# Altium schematic symbol library IMR_Lib.SchLib: 106 symbols
Pins are listed as number, name and electrical type; pins without a type are passive.

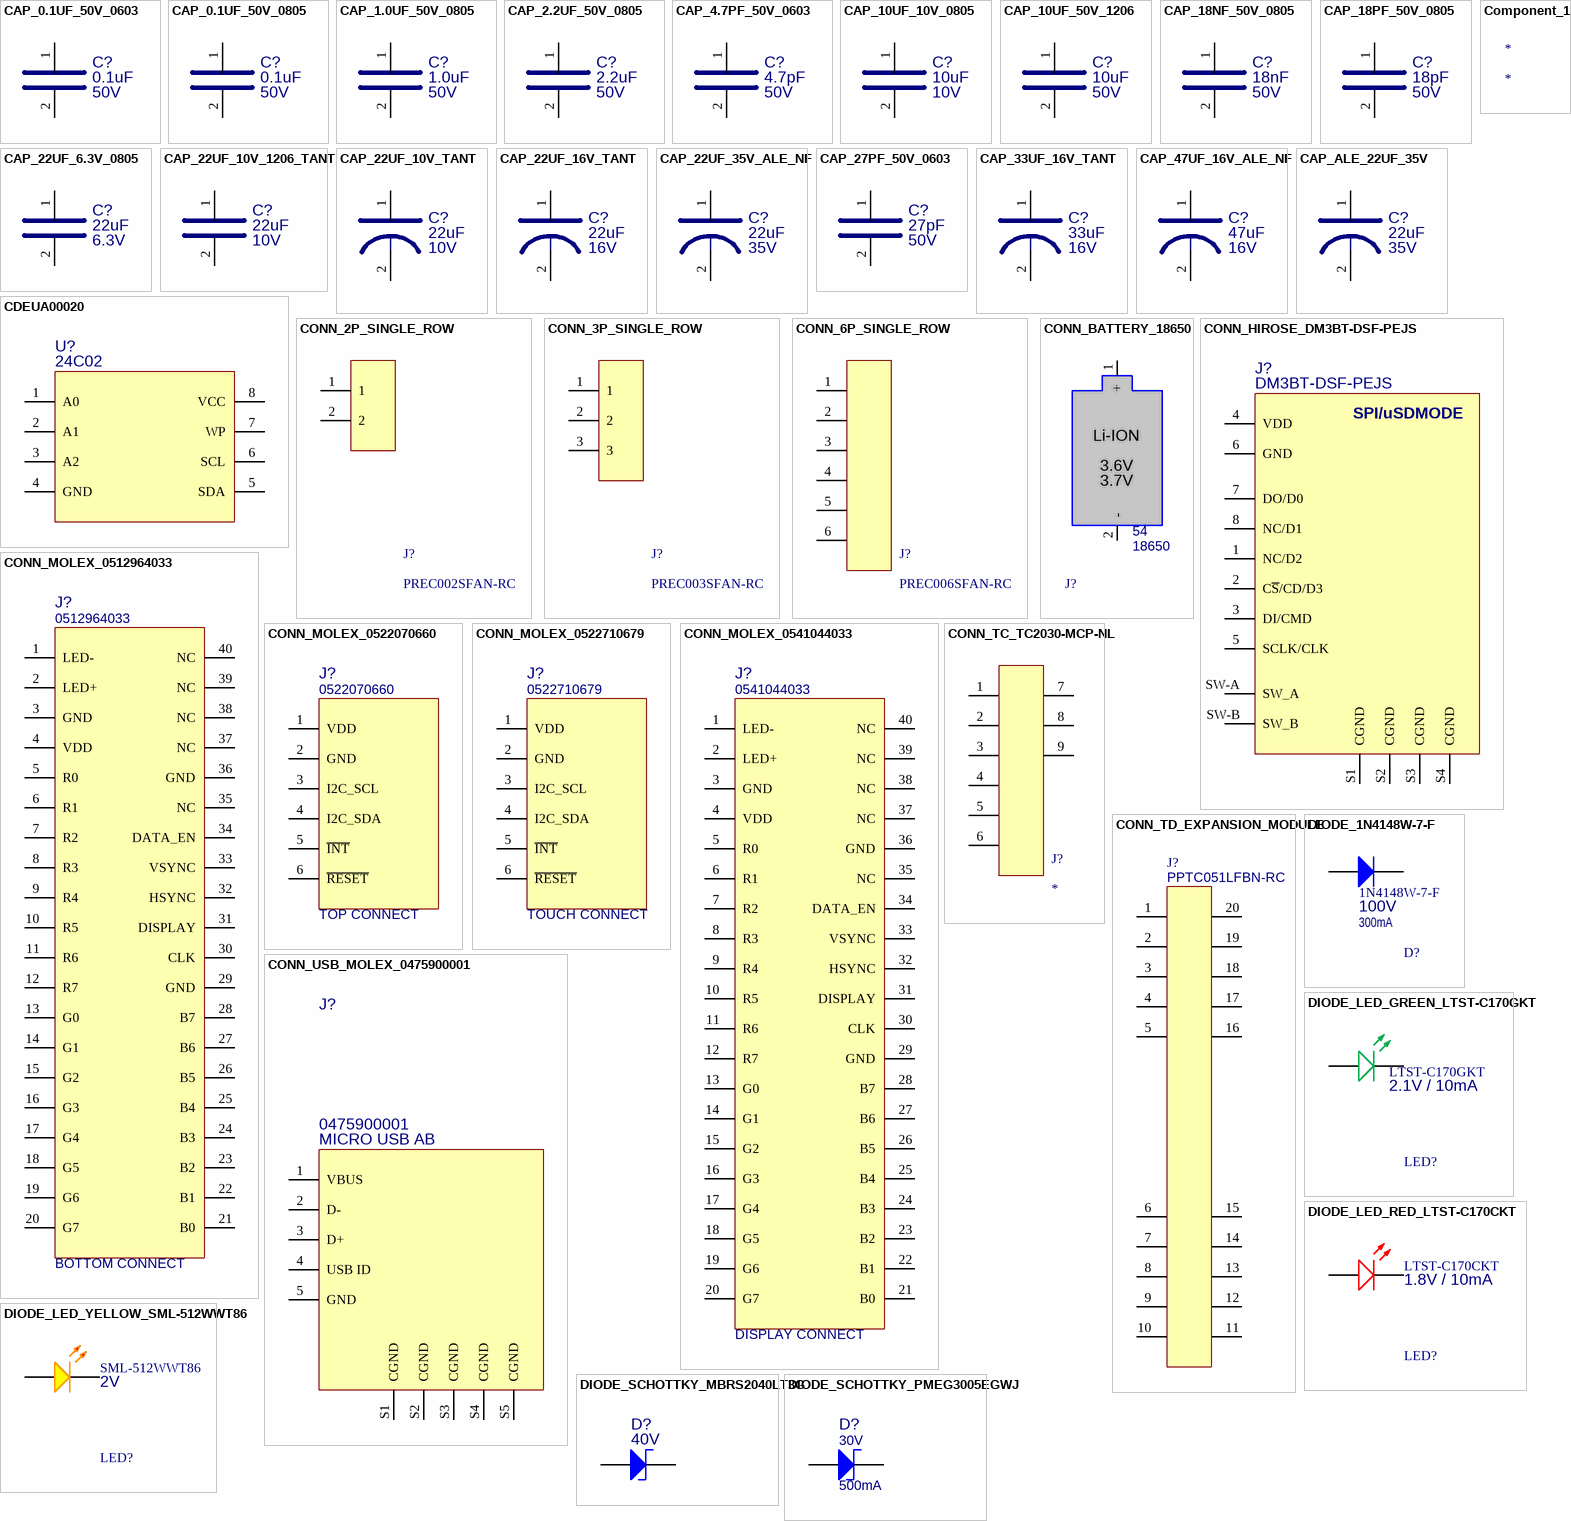
[diagram p0: symbols CAP_0.1UF_50V_0603 to DIODE_SCHOTTKY_PMEG3005EGWJ]

## CAP_0.1UF_50V_0603
designator C?, comment value 0.1uF  VOLTAGE: 50V  (hidden comment: CC0603KRX7R9BB104)
CAP CER 0.1UF 50V X7R 0603; MFG: Yageo; TOLERANCE: 10%; MFG_PN: CC0603KRX7R9BB104; Supplier 1: Digi-Key; Supplier Part Number 1: 311-1344-1-ND; Case/Package: 0603
footprint CAP_0603 (CAP 0603 50V)
pins: 1, 2

## CAP_0.1UF_50V_0805
designator C?, comment value 0.1uF  VOLTAGE: 50V  (hidden comment: 08055C104KAT2A)
CAP CER 0.1UF 50V X7R 0805; MFG: AVX; TOLERANCE: 10%; MFG_PN: 08055C104KAT2A; Supplier 1: Digi-Key; Supplier Part Number 1: 478-1395-1-ND; Case/Package: 0805
footprint CAP_0805
pins: 1, 2

## CAP_1.0UF_50V_0805
designator C?, comment value 1.0uF  VOLTAGE: 50V  (hidden comment: UMK212B7105MGHT)
CAP CER 1UF 50V X7R 0805; MFG: Taiyo Yuden; TOLERANCE: 20%; MFG_PN: UMK212B7105MGHT; Supplier 1: Digi-Key; Supplier Part Number 1: 587-6375-1-ND; Case/Package: 0805
footprint CAP_0805
pins: 1, 2

## CAP_2.2UF_50V_0805
designator C?, comment value 2.2uF  VOLTAGE: 50V  (hidden comment: UMK212BB7225MG-T)
CAP CER 2.2UF 50V X7R 0805; MFG: Taiyo Yuden; TOLERANCE: 20%; MFG_PN: UMK212BB7225MG-T; Supplier 1: Digi-Key; Supplier Part Number 1: 587-4963-1-ND; Case/Package: 0805
footprint CAP_0805
pins: 1, 2

## CAP_4.7PF_50V_0603
designator C?, comment value 4.7pF  VOLTAGE: 50V  (hidden comment: CC0603CRNPO9BN4R7)
CAP CER 4.7PF 50V C0G/NPO 0603; MFG: Yageo; TOLERANCE: +/-.25pF; MFG_PN: CC0603CRNPO9BN4R7; Supplier 1: Digi-Key; Supplier Part Number 1: 311-1740-1-ND; Case/Package: 0603
footprint CAP_0603 (CAP 0603 50V)
pins: 1, 2

## CAP_10UF_10V_0805
designator C?, comment value 10uF  VOLTAGE: 10V  (hidden comment: C2012X7R1A106K125AC)
CAP CER 10UF 10V X7R 0805; MFG: TDK Corporation; TOLERANCE: 10%; MFG_PN: C2012X7R1A106K125AC; Supplier 1: Digi-Key; Supplier Part Number 1: 445-6857-1-ND; Case/Package: 0805
footprint CAP_0805
pins: 1, 2

## CAP_10UF_50V_1206
designator C?, comment value 10uF  VOLTAGE: 50V  (hidden comment: CL31A106KBHNNNE)
CAP CER 10UF 50V X5R 1206; MFG: Samsung Electro-Mechanics; TOLERANCE: 10%; MFG_PN: CL31A106KBHNNNE; Supplier 1: Digi-Key; Supplier Part Number 1: 1276-2876-1-ND; Case/Package: 0805
footprint CAP_1206 (CAP CERAMIC 1206)
pins: 1, 2

## CAP_18NF_50V_0805
designator C?, comment value 18nF  VOLTAGE: 50V  (hidden comment: CC0805KRX7R9BB183)
CAP CER 0.018UF 50V X7R 0805; MFG: Yageo; TOLERANCE: 10%; MFG_PN: CC0805KRX7R9BB183; Supplier 1: Digi-Key; Supplier Part Number 1: 311-1137-1-ND; Case/Package: 0805
footprint CAP_0805
pins: 1, 2

## CAP_18PF_50V_0805
designator C?, comment value 18pF  VOLTAGE: 50V  (hidden comment: CML0805C0G180JT50V)
CAP CER 18PF 50V C0G/NP0 0805; MFG: Stackpole Electronics Inc; TOLERANCE: 5%; MFG_PN: CML0805C0G180JT50V; Supplier 1: Digi-Key; Supplier Part Number 1: 738-CML0805C0G180JT50VCT-ND; Case/Package: 0805
footprint CAP_0805
pins: 1, 2

## CAP_22UF_6.3V_0805
designator C?, comment value 22uF  VOLTAGE: 6.3V  (hidden comment: CL21A226KQQNNNE)
CAP CER 22UF 6.3V X5R 0805; MFG: Samsung Electro-Mechanics; TOLERANCE: 10%; MFG_PN: CL21A226KQQNNNE; Supplier 1: Digi-Key; Supplier Part Number 1: 1276-2907-1-ND; Case/Package: 0805
footprint CAP_0805
pins: 1, 2

## CAP_22UF_10V_1206_TANT
designator C?, comment value 22uF  VOLTAGE: 10V  (hidden comment: TAJA226M010RNJ)
CAP TANT 22UF 20% 10V 1206; MFG: AVX Corporation; MFG_PN: TAJA226M010RNJ; TOLERANCE: 20%; Supplier 1: Digi-Key; Supplier Part Number 1: 478-5798-1-ND; Case/Package: 0805
footprint CAP_1206_TANT (CAP 1206 POLARIZED)
pins: 1, 2

## CAP_22UF_10V_TANT
designator C?, comment value 22uF  VOLTAGE: 10V  (hidden comment: TAJA226M010RNJ)
CAP TANT 22UF 20% 10V 1206; MFG: AVX Corporation; TOLERANCE: 10%; MFG_PN: TAJA226M010RNJ; Supplier 1: Digi-Key; Supplier Part Number 1: 478-5798-1-ND
footprint CAP_1206_TANT (CAP 1206 POLARIZED)
pins: 1, 2

## CAP_22UF_16V_TANT
designator C?, comment value 22uF  VOLTAGE: 16V  (hidden comment: TRJC226K016RRJ)
CAP TANT 22UF 10% 16V 2312; MFG: AVX Corporation; MFG_PN: TRJC226K016RRJ; TOLERANCE: 10%; Supplier 1: Digi-Key; Supplier Part Number 1: 478-11127-1-ND
footprint CAP_2312 (Cap Tantalum 2312 (6032 metric))
pins: 1, 2

## CAP_22UF_35V_ALE_NF
designator C?, comment value 22uF  VOLTAGE: 35V  (hidden comment: UZS1C220MCL1GB)
CAP, AL E, 22UF, 35V, 20%, ROHS; MFG: NICHICON; MFG_PN: UZS1C220MCL1GB; TOLERANCE: 20%; Supplier 1: Digi-Key; Supplier Part Number 1: 493-10138-1-ND
footprint CAP_ALE_SMD_6.6x6.6 (CAP_ALE BODY SIZE 6.6mm x 6.6mm 3.9mm Tall)
pins: 1, 2

## CAP_27PF_50V_0603
designator C?, comment value 27pF  VOLTAGE: 50V  (hidden comment: CC0603KRNPO9BN270)
CAP CER 4.7PF 50V C0G/NPO 0603; MFG: Yageo; TOLERANCE: 10%; MFG_PN: CC0603KRNPO9BN270; Supplier 1: Digi-Key; Supplier Part Number 1: 311-4032-1-ND; Case/Package: 0603
footprint CAP_0603 (CAP 0603 50V)
pins: 1, 2

## CAP_33UF_16V_TANT
designator C?, comment value 33uF  VOLTAGE: 16V  (hidden comment: TAJC336K016RNJ)
CAP TANT 33UF 10% 16V 2312; MFG: AVX Corporation; MFG_PN: TAJC336K016RNJ; TOLERANCE: 10%; Supplier 1: Digi-Key; Supplier Part Number 1: 478-1715-1-ND
footprint CAP_2312 (Cap Tantalum 2312 (6032 metric))
pins: 1, 2

## CAP_47UF_16V_ALE_NF
designator C?, comment value 47uF  VOLTAGE: 16V  (hidden comment: UCL1C470MCL6GS)
CAP ALUM 47UF 20% 16V SMD; MFG: NICHICON; MFG_PN: UCL1C470MCL6GS; TOLERANCE: 20%; Supplier 1: Digi-Key; Supplier Part Number 1: 493-3916-1-ND
footprint CAP_ALE_SMD_6.6x6.6 (CAP_ALE BODY SIZE 6.6mm x 6.6mm 3.9mm Tall)
pins: 1, 2

## CAP_ALE_22UF_35V
designator C?, comment value 22uF  VOLTAGE: 35V  (hidden comment: UZS1C220MCL1GB)
CAP, AL E, 22UF, 35V, 20%, ROHS; MFG: NICHICON; MFG_PN: UZS1C220MCL1GB; TOLERANCE: 20%; Supplier 1: Digi-Key; Supplier Part Number 1: 493-10138-1-ND
footprint CAP_ALE_SMD_228MIL_TALL (CAP_ALE BODY SIZE 6.6mm x 6.6mm 5.8mm Tall)
pins: 1, 2

## CDEUA00020
designator U?  value 24C02  (hidden comment: CDEUA00020)
IC, EEPROM, I2C, 256x8, 8PIN SO8, ROHOS; MFG: ATMEL; MFG_PN: AT24C02N-10SU-2.7; Published: 8-Jun-2000; DatasheetDocument: 1997; Publisher: Altium Limited; Supplier 1: Digi-Key; Supplier Part Number 1: AT24C02N-10SU-2.7-ND
footprint S8_N: Linear Tech SO8 NARROW (8-Pin Small Outline Integrated Circuit 1.27 mm Pitch, IPC Medium Density)
pins: 1 A0, 2 A1, 3 A2, 4 GND, 5 SDA, 6 SCL, 7 WP, 8 VCC

## Component_1
designator *

## CONN_2P_SINGLE_ROW
designator J?, comment PREC002SFAN-RC
CONN HEADER VERT 2POS 2.54MM; MFG: Sullins Connector Solutions; Case/Package: 2P_2.54MM; MFG_PN: PREC002SFAN-RC; Supplier 1: Digi-Key; Supplier Part Number 1: S1212EC-02-ND; Value: *
footprint HDR_1X2_100MILL (SINGLE ROW 2 PIN HDR 2.54MM)
pins: 1, 2

## CONN_3P_SINGLE_ROW
designator J?, comment PREC003SFAN-RC
CONN HEADER VERT 3POS 2.54MM; MFG: Sullins Connector Solutions; Case/Package: 3P_2.54MM; MFG_PN: PREC003SFAN-RC; Supplier 1: Digi-Key; Supplier Part Number 1: S1212EC-03-ND; Value: *
footprint HDR_1X3_100MILL (SINGLE ROW 3 PIN HDR 2.54MM)
pins: 1, 2, 3

## CONN_6P_SINGLE_ROW
designator J?, comment PREC006SFAN-RC
CONN HEADER VERT 6POS 2.54MM; MFG: Sullins Connector Solutions; Case/Package: 6P_2.54MM; MFG_PN: PREC006SFAN-RC; Supplier 1: Digi-Key; Supplier Part Number 1: S1212EC-06-ND; Value: *
footprint HDR_1X6_100MILL (SINGLE ROW 6 PIN HDR 2.54MM)
pins: 1, 2, 3, 4, 5, 6

## CONN_BATTERY_18650
designator J?, comment value 18650  (hidden comment: 54)
BATTERY CONTACT CLP 18650 PC PIN (NOTE: QTY x2); MFG: Keystone Electronics; Case/Package: 2P_2.54MM; Supplier 1: Digi-Key; Supplier Part Number 1: 36-54-ND; MFG_PN: 54
footprint CONN_BATTERY_18650 (BATTERY CONNECTOR 18650 MADE OF 2X KEYSTONE 54)
pins: 1 +, 2 -
text: Li-ION; 3.6V; 3.7V

## CONN_HIROSE_DM3BT-DSF-PEJS
designator J?, comment DM3BT-DSF-PEJS
CONN MICRO SD CARD PUSH-PUSH R/A; MFG: Hirose Electric Co Ltd; MFG_PN: DM3BT-DSF-PEJS; Supplier 1: Digi-Key; Supplier Part Number 1: HR1942CT-ND; VALUE: DM3BT-DSF-PEJS
footprint HRS_DM3BT-DSF-PEJS
pins: 1 NC/D2, 2 C~{S}/CD/D3, 3 DI/CMD, 4 VDD, 5 SCLK/CLK, 6 GND, 7 DO/D0, 8 NC/D1, S1 CGND, S2 CGND, S3 CGND, S4 CGND, SW-A SW_A, SW-B SW_B
text: SPI/uSDMODE

## CONN_MOLEX_0512964033
designator J?, comment 0512964033  value BOTTOM CONNECT
CONN FFC BOTTOM 40POS 0.50MM R/A; MFG: Molex; Case/Package: 0512964033; Supplier 1: Digi-Key; Supplier Part Number 1: WM11237CT-ND; MFG_PN: 0512964033
footprint CONN_MOLEX_0512964033 (MOLEX 0512964033 RGB888 NEW HAVEN CONNECTOR)
pins: 1 LED-, 2 LED+, 3 GND, 4 VDD, 5 R0, 6 R1, 7 R2, 8 R3, 9 R4, 10 R5, 11 R6, 12 R7, 13 G0, 14 G1, 15 G2, 16 G3, 17 G4, 18 G5, 19 G6, 20 G7, 21 B0, 22 B1, 23 B2, 24 B3, 25 B4, 26 B5, 27 B6, 28 B7, 29 GND, 30 CLK, 31 DISPLAY, 32 HSYNC, 33 VSYNC, 34 DATA_EN, 35 NC, 36 GND, 37 NC, 38 NC, 39 NC, 40 NC

## CONN_MOLEX_0522070660
designator J?, comment 0522070660  value TOP CONNECT
CONN FPC TOP 6POS 1.00MM R/A; MFG: Molex; Case/Package: 0522070660; Supplier 1: Digi-Key; Supplier Part Number 1: WM10939CT-ND; MFG_PN: 0522070660
footprint CONN_MOLEX_0522070660 (MOLEX 0522070660 NEW HAVEN TOUCH)
pins: 1 VDD, 2 GND, 3 I2C_SCL, 4 I2C_SDA, 5 ~{INT}, 6 ~{RESET}

## CONN_MOLEX_0522710679
designator J?, comment 0522710679  value TOUCH CONNECT
CONN FPC BOTTOM 6POS 1.00MM R/A; MFG: Molex; Case/Package: 0522710679; Supplier 1: Digi-Key; Supplier Part Number 1: WM7955CT-ND; MFG_PN: 0522710679
footprint CONN_MOLEX_0522710679 (MOLEX 0522710679 NEW HAVEN TOUCH)
pins: 1 VDD, 2 GND, 3 I2C_SCL, 4 I2C_SDA, 5 ~{INT}, 6 ~{RESET}

## CONN_MOLEX_0541044033
designator J?, comment 0541044033  value DISPLAY CONNECT
CONN FFC TOP 40POS 0.50MM R/A; MFG: Molex; Case/Package: 0541044033; Supplier 1: Digi-Key; Supplier Part Number 1: WM11091CT-ND; MFG_PN: 0541044033
footprint CONN_MOLEX_ 0541044033 (MOLEX 0541044033 RGB888 NEW HAVEN CONNECTOR)
pins: 1 LED-, 2 LED+, 3 GND, 4 VDD, 5 R0, 6 R1, 7 R2, 8 R3, 9 R4, 10 R5, 11 R6, 12 R7, 13 G0, 14 G1, 15 G2, 16 G3, 17 G4, 18 G5, 19 G6, 20 G7, 21 B0, 22 B1, 23 B2, 24 B3, 25 B4, 26 B5, 27 B6, 28 B7, 29 GND, 30 CLK, 31 DISPLAY, 32 HSYNC, 33 VSYNC, 34 DATA_EN, 35 NC, 36 GND, 37 NC, 38 NC, 39 NC, 40 NC

## CONN_TC_TC2030-MCP-NL
designator J?  (no BOM)
CABLE TAG-CONNECT IN-CIRCUIT; MFG: Tag-Connect LLC; MFG_PN: TC2030-MCP-NL; Case/Package: *; Supplier 1: Digi-Key; Supplier Part Number 1: TC2030-MCP-NLTC-ND; Value: *
footprint TC2030-MCP-NL-
pins: 1, 2, 3, 4, 5, 6, 7, 8, 9

## CONN_TD_EXPANSION_MODULE
designator J?, comment PPTC051LFBN-RC
CONN HEADER VERT 5POS 2.54MM (NOTE: QTY x4); MFG: Sullins Connector Solutions; Case/Package: EXP_SLOT; MFG_PN: PPTC051LFBN-RC; Supplier 1: Digi-Key; Supplier Part Number 1: S6103-ND; Value: x4
footprint CONN_EXPANSION_BOARD (EXPANSION BOARD CONNECTOR 30 PIN 100 MIL SPACING)
pins: 1, 2, 3, 4, 5, 6, 7, 8, 9, 10, 11, 12, 13, 14, 15, 16, 17, 18, 19, 20

## CONN_USB_MOLEX_0475900001
designator J?, comment value MICRO USB AB  (hidden comment: 0475900001)
CONN RCPT MICRO USB AB 5P SMD RA; MFG: Molex; Supplier 1: Digi-Key; Supplier Part Number 1: WM17144CT-ND; MFG_PN: 0475900001
footprint MICRO_USB_AB_MOLEX_0475900001 (MICRO USB AB MOLEX 0475900001)
pins: 1 VBUS, 2 D-, 3 D+, 4 USB ID, 5 GND, S1 CGND, S2 CGND, S3 CGND, S4 CGND, S5 CGND

## DIODE_1N4148W-7-F
designator D?, comment value 100V  CURRENT: 300mA  (hidden comment: 1N4148W-7-F)
DIODE GEN PURP 100V 300MA SOD123; MFG: Diodes Incorporated; Case/Package: SOD-123; Supplier 1: Digi-Key; Supplier Part Number 1: 1N4148W-FDICT-ND; MFG_PN: 1N4148W-7-F
footprint SOD123
pins: 1 A, 2 K

## DIODE_LED_GREEN_LTST-C170GKT
designator LED?, comment value 2.1V / 10mA  (hidden comment: LTST-C170GKT)
DIODE, LED GREEN CLEAR SMD; MFG: Lite-On Inc.; Case/Package: 0805; Supplier 1: Digi-Key; Supplier Part Number 1: 160-1179-1-ND; MFG_PN: LTST-C170GKT
footprint PMG_LTST-C170GKT (LTST-C170GKT)
pins: 1 A, 2 K

## DIODE_LED_RED_LTST-C170CKT
designator LED?, comment value 1.8V / 10mA  (hidden comment: LTST-C170CKT)
DIODE, LED RED CLEAR SMD; MFG: Lite-On Inc.; Case/Package: 0805; Supplier 1: Digi-Key; Supplier Part Number 1: 160-1176-1-ND; MFG_PN: LTST-C170CKT
footprint PMG_LTST-C170CKT (LTST-C170CKT)
pins: 1 A, 2 K

## DIODE_LED_YELLOW_SML-512WWT86
designator LED?, comment value 2V  (hidden comment: SML-512WWT86)
LED YELLOW DIFFUSED 0603 SMD; MFG: Rohm Semiconductor; Case/Package: 0603; Supplier 1: Digi-Key; Supplier Part Number 1: 511-1315-1-ND; MFG_PN: SML-512WWT86
footprint PMG_YLED_SML-512WWT86 (LED YELLOW DIFFUSED 0603 SMD)
pins: 1 A, 2 K

## DIODE_SCHOTTKY_MBRS2040LT3G
designator D?, comment value 40V  (hidden comment: MBRS2040LT3G)
DIODE SCHOTTKY 40V 2A SMB; MFG: ON SEMICONDUCTOR; PackageReference: DO-35; ComponentLink1Description: Manufacturer Link; ComponentLink1URL: http://www.fairchildsemi.com/; ComponentLink2Description: Datasheet; ComponentLink2URL: http://www.fairchildsemi.com/ds/1N%2F1N4148.pdf; Supplier 1: Digi-Key; Supplier Part Number 1: MBRS2040LT3GOSCT-ND; MFG_PN: MBRS2040LT3G; Current: 2A; Case/Package: SMB
footprint SMB (DIODE SCHOTTKY 40V 1A SMB)
pins: 1 A, 2 K

## DIODE_SCHOTTKY_PMEG3005EGWJ
designator D?, comment value 30V  Current: 500mA  (hidden comment: PMEG3005EGWJ)
DIODE SCHOTTKY 30V 500MA SOD123; MFG: Nexperia USA Inc.; ComponentLink1Description: Manufacturer Link; ComponentLink1URL: http://www.fairchildsemi.com/; ComponentLink2Description: Datasheet; ComponentLink2URL: http://www.fairchildsemi.com/ds/1N%2F1N4148.pdf; Supplier 1: Digi-Key; Supplier Part Number 1: MBRS2040LT3GOSCT-ND; MFG_PN: PMEG3005EGWJ; Case/Package: SOD-123
footprint SOD123
pins: 1 A, 2 K

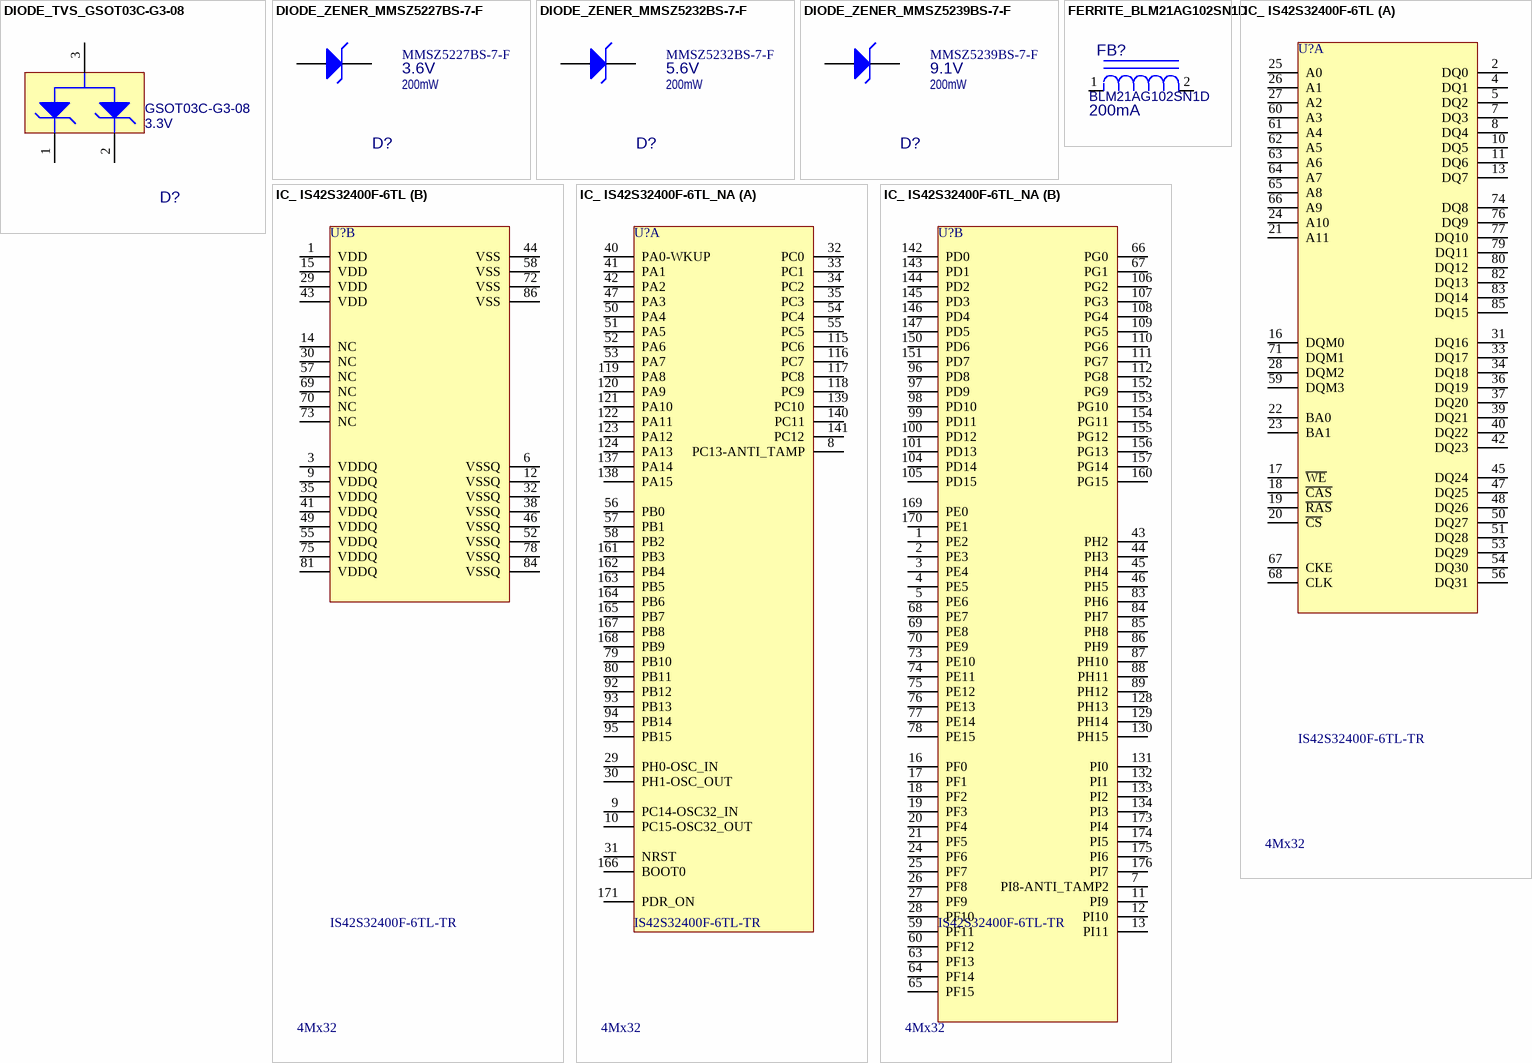
[diagram p1: symbols DIODE_TVS_GSOT03C-G3-08 to IC_ IS42S32400F-6TL_NA]

## DIODE_TVS_GSOT03C-G3-08
designator D?, comment value 3.3V  (hidden comment: GSOT03C-G3-08)
TVS DIODE 3.3V 12.3V SOT23; MFG: Vishay Semiconductor; POWER: 30A (8/20us); Case/Package: SOT-23; Supplier 1: Digi-Key; Supplier Part Number 1: GSOT03C-G3-08GICT-ND; MFG_PN: GSOT03C-G3-08
footprint SOT-23 (SOT23-3)
pins: 1 A1, 2 A2, 3 A

## DIODE_ZENER_MMSZ5227BS-7-F
designator D?, comment value 3.6V  POWER: 200mW  (hidden comment: MMSZ5227BS-7-F)
DIODE ZENER 3.6V 200MW SOD323; MFG: Vishay Semiconductor; Case/Package: SOD323; Supplier 1: Digi-Key; Supplier Part Number 1: MMSZ5227BS-FDICT-ND; MFG_PN: MMSZ5227BS-7-F
footprint SOD323
pins: 1 A, 2 K

## DIODE_ZENER_MMSZ5232BS-7-F
designator D?, comment value 5.6V  POWER: 200mW  (hidden comment: MMSZ5232BS-7-F)
DIODE ZENER 5.6V 200MW SOD323; MFG: Vishay Semiconductor; Case/Package: SOD323; Supplier 1: Digi-Key; Supplier Part Number 1: MMSZ5232BS-FDICT-ND; MFG_PN: MMSZ5232BS-7-F
footprint SOD323
pins: 1 A, 2 K

## DIODE_ZENER_MMSZ5239BS-7-F
designator D?, comment value 9.1V  POWER: 200mW  (hidden comment: MMSZ5239BS-7-F)
DIODE ZENER 9.1V 200MW SOD323; MFG: Vishay Semiconductor; Case/Package: SOD323; Supplier 1: Digi-Key; Supplier Part Number 1: MMSZ5239BS-FDICT-ND; MFG_PN: MMSZ5239BS-7-F
footprint SOD323
pins: 1 A, 2 K

## FERRITE_BLM21AG102SN1D
designator FB?, comment value 200mA  (hidden comment: BLM21AG102SN1D)
FERRITE, 1KOHM AT 100MHZ, 220MA, .450DCR; MFG: MURATA; TOLERANCE: 10%; Supplier 1: Digi-Key; Supplier Part Number 1: 490-1041-1-ND; MFG_PN: BLM21AG102SN1D
footprint RES_0805
pins: 1, 2

## IC_ IS42S32400F-6TL
designator U?, comment IS42S32400F-6TL-TR  value 4Mx32
IC DRAM 128M PARALLEL 86TSOP II; MFG: ISSI, Integrated Silicon Solution Inc; MFG_PN: IS42S32400F-6TL-TR; Supplier 1: Mouser; Supplier Part Number 1: 870-IS42S32400F-6TL; Case/Package: 86TSSOPII
footprint 86TSOPII (SOP50P1176X120-86N)
part A pins: 2 DQ0, 4 DQ1, 5 DQ2, 7 DQ3, 8 DQ4, 10 DQ5, 11 DQ6, 13 DQ7, 16 DQM0, 17 ~{WE}, 18 ~{CAS}, 19 ~{RAS}, 20 ~{CS}, 21 A11, 22 BA0, 23 BA1, 24 A10, 25 A0, 26 A1, 27 A2, 28 DQM2, 31 DQ16, 33 DQ17, 34 DQ18, 36 DQ19, 37 DQ20, 39 DQ21, 40 DQ22, 42 DQ23, 45 DQ24, 47 DQ25, 48 DQ26, 50 DQ27, 51 DQ28, 53 DQ29, 54 DQ30, 56 DQ31, 59 DQM3, 60 A3, 61 A4, 62 A5, 63 A6, 64 A7, 65 A8, 66 A9, 67 CKE, 68 CLK, 71 DQM1, 74 DQ8, 76 DQ9, 77 DQ10, 79 DQ11, 80 DQ12, 82 DQ13, 83 DQ14, 85 DQ15
part B pins: 1 VDD, 3 VDDQ, 6 VSSQ, 9 VDDQ, 12 VSSQ, 14 NC, 15 VDD, 29 VDD, 30 NC, 32 VSSQ, 35 VDDQ, 38 VSSQ, 41 VDDQ, 43 VDD, 44 VSS, 46 VSSQ, 49 VDDQ, 52 VSSQ, 55 VDDQ, 57 NC, 58 VSS, 69 NC, 70 NC, 72 VSS, 73 NC, 75 VDDQ, 78 VSSQ, 81 VDDQ, 84 VSSQ, 86 VSS
2 alternate drawings of the same symbol

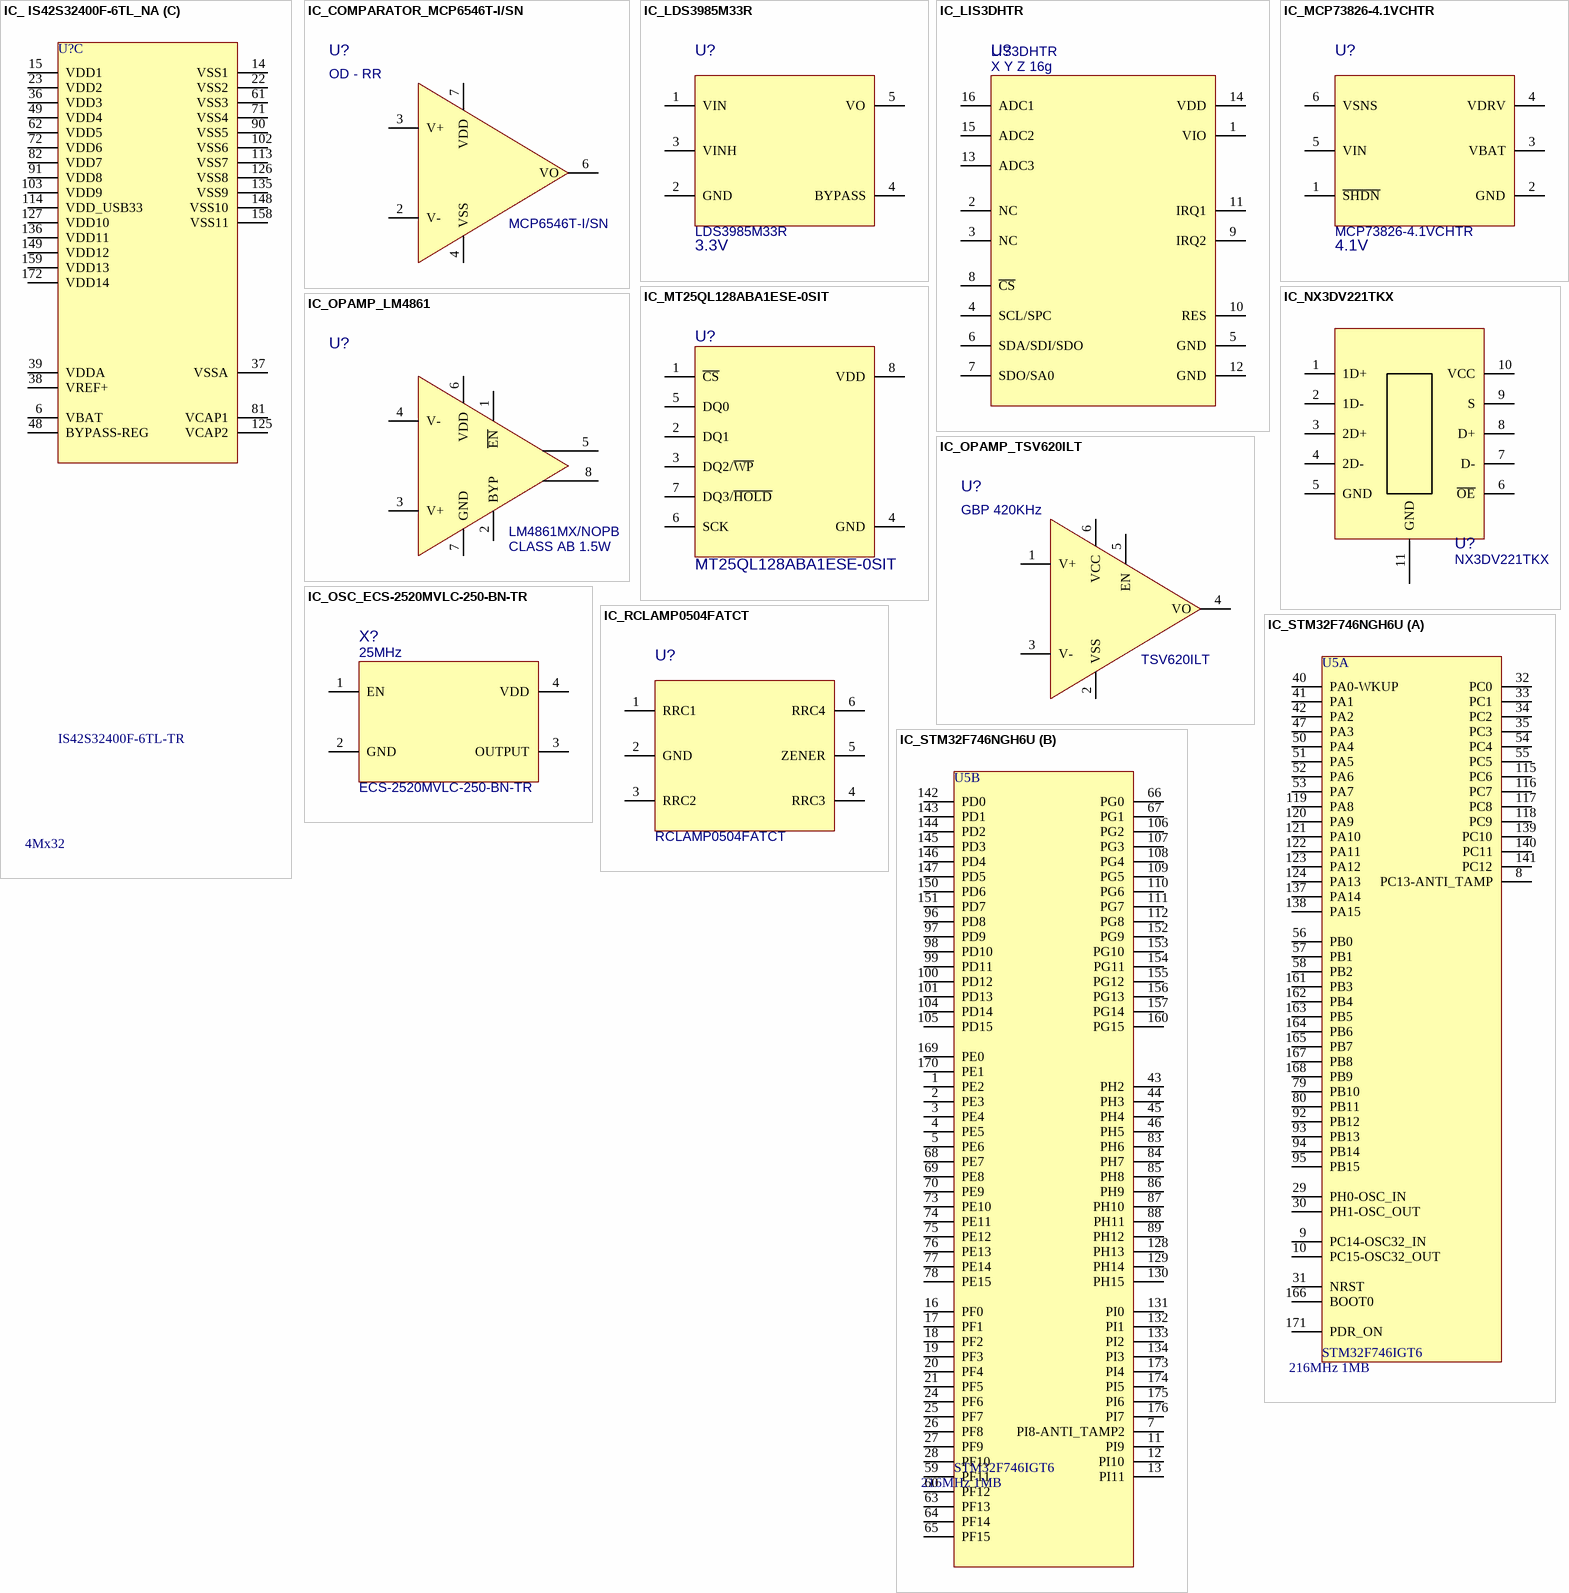
[diagram p2: symbols IC_ IS42S32400F-6TL_NA to IC_STM32F746NGH6U]

## IC_ IS42S32400F-6TL_NA
designator U?, comment IS42S32400F-6TL-TR  value 4Mx32
IC DRAM 128M PARALLEL 86TSOP II; MFG: ISSI, Integrated Silicon Solution Inc; MFG_PN: IS42S32400F-6TL-TR; Supplier 1: Mouser; Supplier Part Number 1: 870-IS42S32400F-6TL; Case/Package: 86TSSOPII
footprint 86TSOPII (SOP50P1176X120-86N)
part A pins: 8 PC13-ANTI_TAMP, 9 PC14-OSC32_IN, 10 PC15-OSC32_OUT, 29 PH0-OSC_IN, 30 PH1-OSC_OUT, 31 NRST, 32 PC0, 33 PC1, 34 PC2, 35 PC3, 40 PA0-WKUP, 41 PA1, 42 PA2, 47 PA3, 50 PA4, 51 PA5, 52 PA6, 53 PA7, 54 PC4, 55 PC5, 56 PB0, 57 PB1, 58 PB2, 79 PB10, 80 PB11, 92 PB12, 93 PB13, 94 PB14, 95 PB15, 115 PC6, 116 PC7, 117 PC8, 118 PC9, 119 PA8, 120 PA9, 121 PA10, 122 PA11, 123 PA12, 124 PA13, 137 PA14, 138 PA15, 139 PC10, 140 PC11, 141 PC12, 161 PB3, 162 PB4, 163 PB5, 164 PB6, 165 PB7, 166 BOOT0, 167 PB8, 168 PB9, 171 PDR_ON
part B pins: 1 PE2, 2 PE3, 3 PE4, 4 PE5, 5 PE6, 7 PI8-ANTI_TAMP2, 11 PI9, 12 PI10, 13 PI11, 16 PF0, 17 PF1, 18 PF2, 19 PF3, 20 PF4, 21 PF5, 24 PF6, 25 PF7, 26 PF8, 27 PF9, 28 PF10, 43 PH2, 44 PH3, 45 PH4, 46 PH5, 59 PF11, 60 PF12, 63 PF13, 64 PF14, 65 PF15, 66 PG0, 67 PG1, 68 PE7, 69 PE8, 70 PE9, 73 PE10, 74 PE11, 75 PE12, 76 PE13, 77 PE14, 78 PE15, 83 PH6, 84 PH7, 85 PH8, 86 PH9, 87 PH10, 88 PH11, 89 PH12, 96 PD8, 97 PD9, 98 PD10, 99 PD11, 100 PD12, 101 PD13, 104 PD14, 105 PD15, 106 PG2, 107 PG3, 108 PG4, 109 PG5, 110 PG6, 111 PG7, 112 PG8, 128 PH13, 129 PH14, 130 PH15, 131 PI0, 132 PI1, 133 PI2, 134 PI3, 142 PD0, 143 PD1, 144 PD2, 145 PD3, 146 PD4, 147 PD5, 150 PD6, 151 PD7, 152 PG9, 153 PG10, 154 PG11, 155 PG12, 156 PG13, 157 PG14, 160 PG15, 169 PE0, 170 PE1, 173 PI4, 174 PI5, 175 PI6, 176 PI7
part C pins: 6 VBAT, 14 VSS1, 15 VDD1, 22 VSS2, 23 VDD2, 36 VDD3, 37 VSSA, 38 VREF+, 39 VDDA, 48 BYPASS-REG, 49 VDD4, 61 VSS3, 62 VDD5, 71 VSS4, 72 VDD6, 81 VCAP1, 82 VDD7, 90 VSS5, 91 VDD8, 102 VSS6, 103 VDD9, 113 VSS7, 114 VDD_USB33, 125 VCAP2, 126 VSS8, 127 VDD10, 135 VSS9, 136 VDD11, 148 VSS10, 149 VDD12, 158 VSS11, 159 VDD13, 172 VDD14
2 alternate drawings of the same symbol

## IC_COMPARATOR_MCP6546T-I/SN
designator U?, comment value OD - RR  (hidden comment: MCP6546T-I/SN)
IC COMP OPENDRN 1.6V SNGL 8-SOIC; MFG: Microchip Technology; Supplier 1: Digi-Key; Supplier Part Number 1: MCP6546T-I/SNCT-ND; Case/Package: 8-SOIC; MFG_PN: MCP6546T-I/SN
footprint SO-8 (SO8 IC)
pins: 2 V-, 3 V+, 4 VSS, 6 VO, 7 VDD

## IC_LDS3985M33R
designator U?, comment value 3.3V  (hidden comment: LDS3985M33R)
IC REG LINEAR 3.3V 300MA SOT23-5; MFG: STMicroelectronics; Supplier 1: Digi-Key; Supplier Part Number 1: 497-4257-1-ND; MFG_PN: LDS3985M33R
footprint SOT23-5
pins: 1 VIN, 2 GND, 3 VINH, 4 BYPASS, 5 VO

## IC_LIS3DHTR
designator U?, comment value X Y Z 16g  (hidden comment: LIS3DHTR)
ACCEL 2-16G I2C/SPI 16LGA; MFG: STMicroelectronics; Supplier 1: Digi-Key; Supplier Part Number 1: 497-10613-1-ND; MFG_PN: LIS3DHTR
footprint XDCR_LIS3DHTR
pins: 1 VIO, 2 NC, 3 NC, 4 SCL/SPC, 5 GND, 6 SDA/SDI/SDO, 7 SDO/SA0, 8 ~{CS}, 9 IRQ2, 10 RES, 11 IRQ1, 12 GND, 13 ADC3, 14 VDD, 15 ADC2, 16 ADC1

## IC_MCP73826-4.1VCHTR
designator U?, comment value 4.1V  (hidden comment: MCP73826-4.1VCHTR)
IC CONTROLLR LI-ION 4.1V SOT23-6; MFG: Microchip Technology; Supplier 1: Digi-Key; Supplier Part Number 1: MCP73826-4.1VCHCT-ND; MFG_PN: MCP73826-4.1VCHTR
footprint SOT23-6
pins: 1 ~{SHDN}, 2 GND, 3 VBAT, 4 VDRV, 5 VIN, 6 VSNS

## IC_MT25QL128ABA1ESE-0SIT
designator U?, comment MT25QL128ABA1ESE-0SIT
IC FLASH 128M SPI 133MHZ 8SOP2; MFG: Micron Technology Inc.; MFG_PN: MT25QL128ABA1ESE-0SIT; Supplier 1: Digi-Key; Supplier Part Number 1: 557-1772-1-ND; Case/Package: 8SOP2; VALUE: MT25QL128ABA1ESE-0SIT
footprint SO8W (8 Pin SOP2 (SO8W) 5mm x 5mm)
pins: 1 ~{CS}, 2 DQ1, 3 DQ2/~{WP}, 4 GND, 5 DQ0, 6 SCK, 7 DQ3/~{HOLD}, 8 VDD

## IC_NX3DV221TKX
designator U?, comment NX3DV221TKX
IC USB 2.0 SWITCH HS 10HVSON; MFG: NXP USA Inc.; Case/Package: 10-DFN; Supplier 1: Digi-Key; Supplier Part Number 1: 568-10368-1-ND; MFG_PN: NX3DV221TKX
footprint PMG_NX3DV221TKX (SWDAT_IC USB 2.0 SWITCH HS 10HVSON)
pins: 1 1D+, 2 1D-, 3 2D+, 4 2D-, 5 GND, 6 ~{OE}, 7 D-, 8 D+, 9 S, 10 VCC, 11 GND

## IC_OPAMP_LM4861
designator U?, comment value CLASS AB 1.5W  (hidden comment: LM4861MX/NOPB)
IC AMP CLASS AB MONO 1.5W 8SOIC; MFG: Texas Instruments; Supplier 1: Digi-Key; Supplier Part Number 1: 296-38566-1-ND; Case/Package: 8SOIC; MFG_PN: LM4861MX/NOPB
footprint SO-8 (SO8 IC)
pins: 1 ~{EN}, 2 BYP, 3 V+, 4 V-, 5 VO1, 6 VDD, 7 GND, 8 VO2

## IC_OPAMP_TSV620ILT
designator U?, comment value GBP 420KHz  (hidden comment: TSV620ILT)
IC OPAMP GP 1 CIRCUIT SOT23-6; MFG: STMicroelectronics; Supplier 1: Digi-Key; Supplier Part Number 1: 497-10160-1-ND; Case/Package: SOT23-6; MFG_PN: TSV620ILT
footprint SOT23-6
pins: 1 V+, 2 VSS, 3 V-, 4 VO, 5 EN, 6 VCC

## IC_OSC_ECS-2520MVLC-250-BN-TR
designator X?, comment value 25MHz  (hidden comment: ECS-2520MVLC-250-BN-TR)
XTAL OSC XO 25MHZ CMOS SMD; MFG: ECS Inc.; Supplier 1: Digi-Key; Supplier Part Number 1: 50-ECS-2520MVLC-250-BN-CT-ND; Case/Package: 4-SMD; MFG_PN: ECS-2520MVLC-250-BN-TR
footprint OSC_ECS-2520S25-250-FN-TR
pins: 1 EN, 2 GND, 3 OUTPUT, 4 VDD

## IC_RCLAMP0504FATCT
designator U?, comment RCLAMP0504FATCT
TVS DIODE 5V 25V SC70-6; MFG: Semtech Corporation; Supplier 1: Digi-Key; Supplier Part Number 1: RCLAMP0504FATCTCT-ND; VALUE: 5V; MFG_PN: RCLAMP0504FATCT
footprint SOT-363_6-TSSOP_SC-88 (COMMON NAMES: SOT-363, 6-TSSOP, SC-88)
pins: 1 RRC1, 2 GND, 3 RRC2, 4 RRC3, 5 ZENER, 6 RRC4

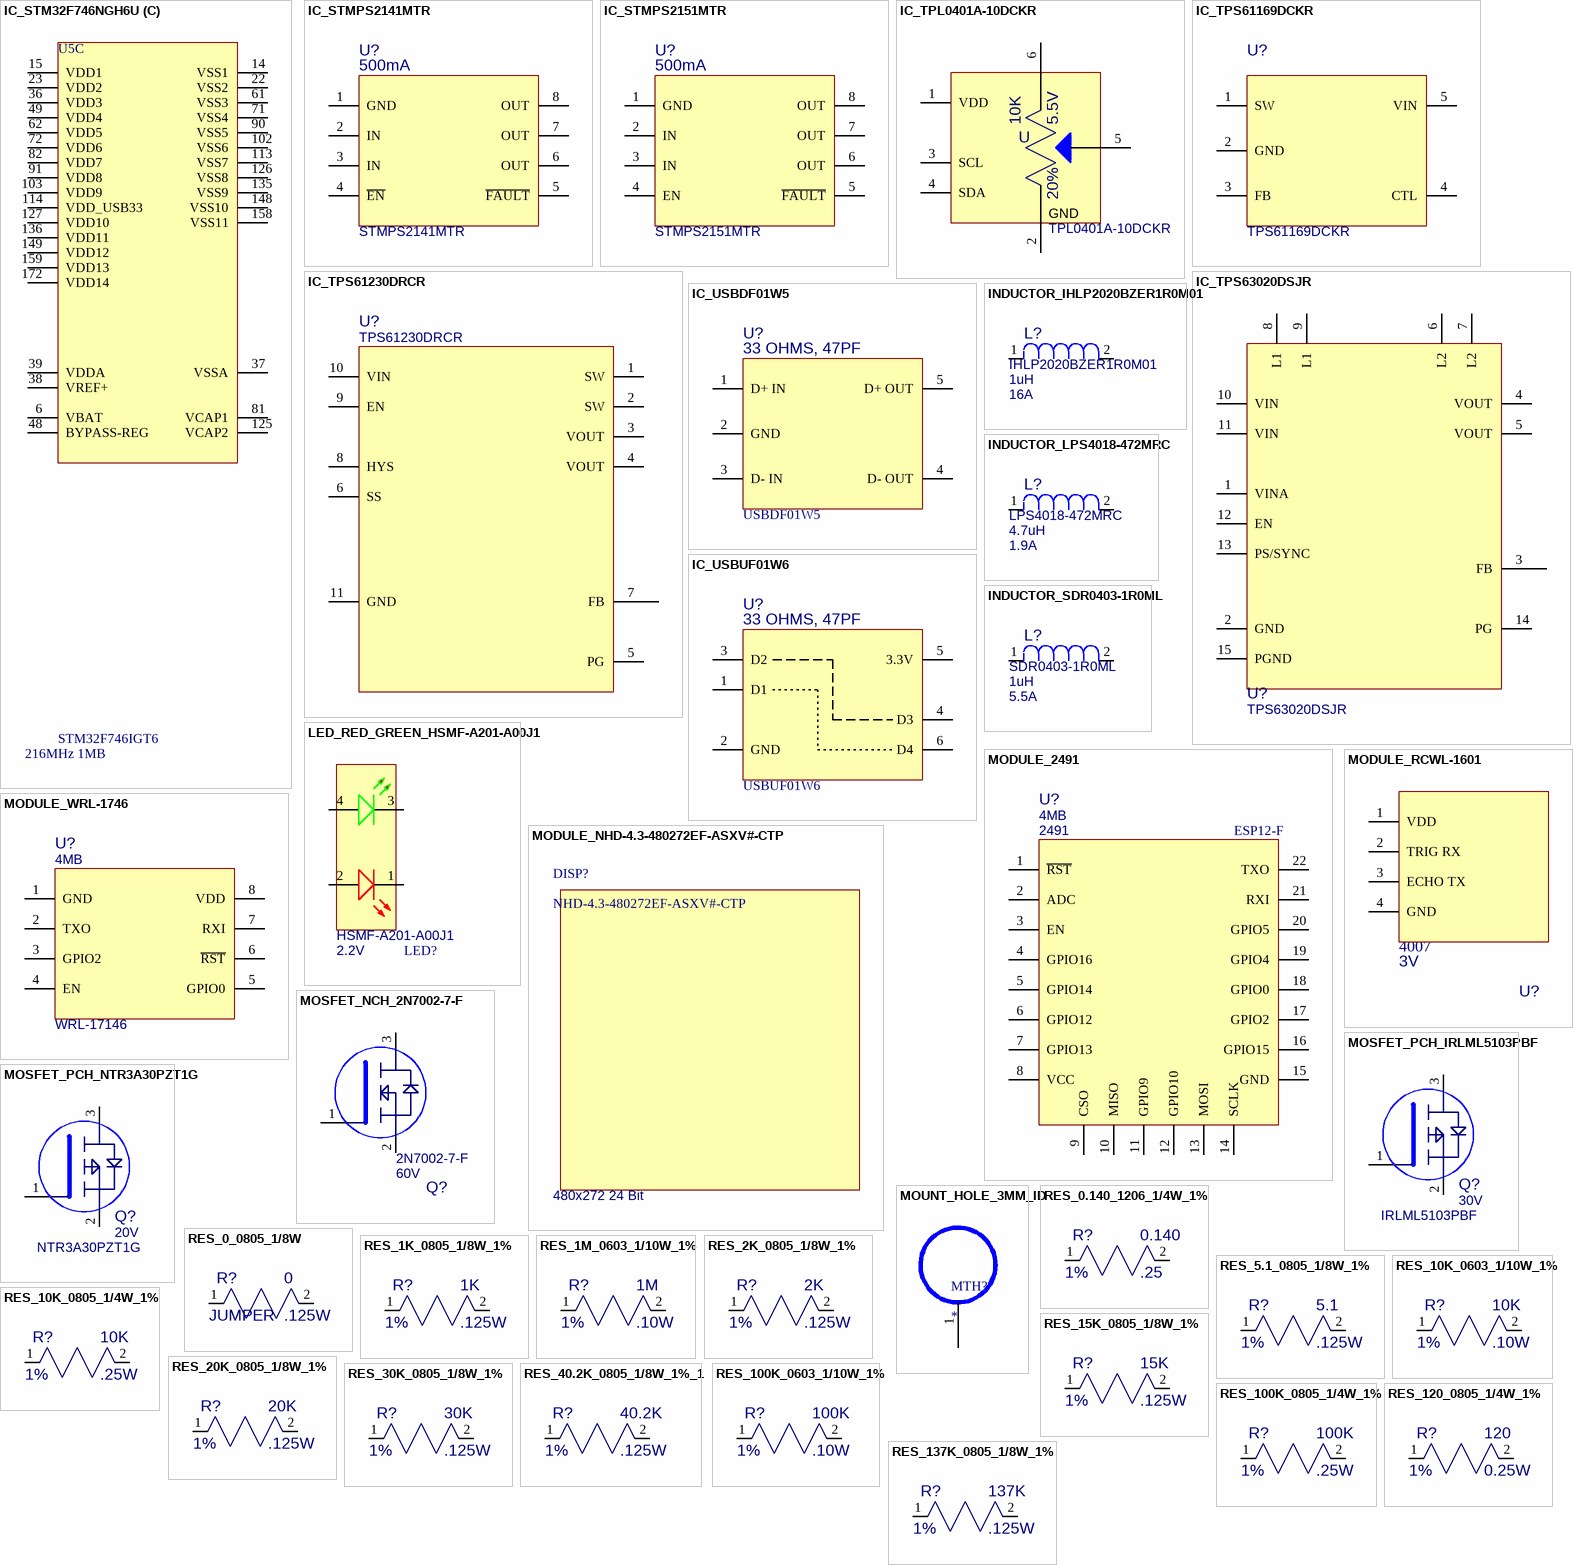
[diagram p3: symbols IC_STM32F746NGH6U to RES_137K_0805_1/8W_1%]

## IC_STM32F746NGH6U
designator U5, comment STM32F746IGT6  value 216MHz 1MB
STM32F746NGH6 (STM32F7 Birdie) TBGA216; MFG: STMicroelectronics; Case/Package: 176LQFP; MFG_PN: STM32F746IGT6; Supplier 1: DigiKey; Supplier Part Number 1: 497-15817-ND
footprint QFP50P2600X2600X160-176N
part A pins: 8 PC13-ANTI_TAMP, 9 PC14-OSC32_IN, 10 PC15-OSC32_OUT, 29 PH0-OSC_IN, 30 PH1-OSC_OUT, 31 NRST, 32 PC0, 33 PC1, 34 PC2, 35 PC3, 40 PA0-WKUP, 41 PA1, 42 PA2, 47 PA3, 50 PA4, 51 PA5, 52 PA6, 53 PA7, 54 PC4, 55 PC5, 56 PB0, 57 PB1, 58 PB2, 79 PB10, 80 PB11, 92 PB12, 93 PB13, 94 PB14, 95 PB15, 115 PC6, 116 PC7, 117 PC8, 118 PC9, 119 PA8, 120 PA9, 121 PA10, 122 PA11, 123 PA12, 124 PA13, 137 PA14, 138 PA15, 139 PC10, 140 PC11, 141 PC12, 161 PB3, 162 PB4, 163 PB5, 164 PB6, 165 PB7, 166 BOOT0, 167 PB8, 168 PB9, 171 PDR_ON
part B pins: 1 PE2, 2 PE3, 3 PE4, 4 PE5, 5 PE6, 7 PI8-ANTI_TAMP2, 11 PI9, 12 PI10, 13 PI11, 16 PF0, 17 PF1, 18 PF2, 19 PF3, 20 PF4, 21 PF5, 24 PF6, 25 PF7, 26 PF8, 27 PF9, 28 PF10, 43 PH2, 44 PH3, 45 PH4, 46 PH5, 59 PF11, 60 PF12, 63 PF13, 64 PF14, 65 PF15, 66 PG0, 67 PG1, 68 PE7, 69 PE8, 70 PE9, 73 PE10, 74 PE11, 75 PE12, 76 PE13, 77 PE14, 78 PE15, 83 PH6, 84 PH7, 85 PH8, 86 PH9, 87 PH10, 88 PH11, 89 PH12, 96 PD8, 97 PD9, 98 PD10, 99 PD11, 100 PD12, 101 PD13, 104 PD14, 105 PD15, 106 PG2, 107 PG3, 108 PG4, 109 PG5, 110 PG6, 111 PG7, 112 PG8, 128 PH13, 129 PH14, 130 PH15, 131 PI0, 132 PI1, 133 PI2, 134 PI3, 142 PD0, 143 PD1, 144 PD2, 145 PD3, 146 PD4, 147 PD5, 150 PD6, 151 PD7, 152 PG9, 153 PG10, 154 PG11, 155 PG12, 156 PG13, 157 PG14, 160 PG15, 169 PE0, 170 PE1, 173 PI4, 174 PI5, 175 PI6, 176 PI7
part C pins: 6 VBAT, 14 VSS1, 15 VDD1, 22 VSS2, 23 VDD2, 36 VDD3, 37 VSSA, 38 VREF+, 39 VDDA, 48 BYPASS-REG, 49 VDD4, 61 VSS3, 62 VDD5, 71 VSS4, 72 VDD6, 81 VCAP1, 82 VDD7, 90 VSS5, 91 VDD8, 102 VSS6, 103 VDD9, 113 VSS7, 114 VDD_USB33, 125 VCAP2, 126 VSS8, 127 VDD10, 135 VSS9, 136 VDD11, 148 VSS10, 149 VDD12, 158 VSS11, 159 VDD13, 172 VDD14
2 alternate drawings of the same symbol

## IC_STMPS2141MTR
designator U?, comment value 500mA  (hidden comment: STMPS2141MTR)
IC PWR SWITCH N-CHANNEL 1:1 8SO; MFG: STMicroelectronics; Supplier 1: Digi-Key; Supplier Part Number 1: 497-6932-1-ND; Case/Package: SO8; MFG_PN: STMPS2141MTR
footprint SO-8 (SO8 IC)
pins: 1 GND, 2 IN, 3 IN, 4 ~{EN}, 5 ~{FAULT}, 6 OUT, 7 OUT, 8 OUT

## IC_STMPS2151MTR
designator U?, comment value 500mA  (hidden comment: STMPS2151MTR)
IC PWR SWITCH N-CHAN 1:1 SOT23-5; MFG: STMicroelectronics; Supplier 1: Digi-Key; Supplier Part Number 1: 497-8349-1-ND; Case/Package: SO8; MFG_PN: STMPS2151MTR
footprint SO-8 (SO8 IC)
pins: 1 GND, 2 IN, 3 IN, 4 EN, 5 ~{FAULT}, 6 OUT, 7 OUT, 8 OUT

## IC_TPL0401A-10DCKR
designator U, comment value 10K  TOLERANCE: 20%  POWER: 5.5V  (hidden comment: TPL0401A-10DCKR)
IC DGTL POT 10KOHM 128TAP SC70-6; MFG: Texas Instruments; Case/Package: SC70-6; Supplier 1: Digi-Key; Supplier Part Number 1: 296-29676-1-ND; MFG_PN: TPL0401A-10DCKR
footprint SOT-363_6-TSSOP_SC-88 (COMMON NAMES: SOT-363, 6-TSSOP, SC-88)
pins: 1 VDD, 2 GND, 3 SCL, 4 SDA, 5 W, 6 H

## IC_TPS61169DCKR
designator U?, comment TPS61169DCKR
IC LED DRVR RGLTR DIM 1.8A SC70; MFG: Texas Instruments; Supplier 1: Digi-Key; Supplier Part Number 1: 296-40821-1-ND; VALUE: 1.8A; Case/Package: SC70; MFG_PN: TPS61169DCKR
footprint SC70-5_SOT-353_5-TSSOP (COMMON NAMES: SC70-5, SOT-353, 5-TSSOP)
pins: 1 SW, 2 GND, 3 FB, 4 CTL, 5 VIN

## IC_TPS61230DRCR
designator U?, comment TPS61230DRCR
IC REG BOOST ADJ 4A 10VSON; MFG: Texas Instruments; Case/Package: 10VSON; Supplier 1: Digi-Key; VALUE: 4A; Supplier Part Number 1: 296-37761-1-ND; MFG_PN: TPS61230DRCR
footprint 10VSON (IC PACKAGE TPS61230DRCR)
pins: 1 SW, 2 SW, 3 VOUT, 4 VOUT, 5 PG, 6 SS, 7 FB, 8 HYS, 9 EN, 10 VIN, 11 GND

## IC_TPS63020DSJR
designator U?, comment TPS63020DSJR
IC REG BCK BST ADJ 3.5A 14VSON; MFG: Texas Instruments; Case/Package: 14VSON; Supplier 1: Digi-Key; VALUE: 3.5A; Supplier Part Number 1: 296-36491-1-ND; MFG_PN: TPS63020DSJR
footprint 14VSON (IC PACKAGE TPS63020DSJR)
pins: 1 VINA, 2 GND, 3 FB, 4 VOUT, 5 VOUT, 6 L2, 7 L2, 8 L1, 9 L1, 10 VIN, 11 VIN, 12 EN, 13 PS/SYNC, 14 PG, 15 PGND

## IC_USBDF01W5
designator U?, comment value 33 OHMS, 47PF  (hidden comment: USBDF01W5)
FILTER RC(PI) 33 OHM/47PF SMD; MFG: STMicroelectronics; Supplier 1: Digi-Key; Supplier Part Number 1: 497-3086-1-ND; MFG_PN: USBDF01W5
footprint SC70-5_SOT-353_5-TSSOP (COMMON NAMES: SC70-5, SOT-353, 5-TSSOP)
pins: 1 D+ IN, 2 GND, 3 D- IN, 4 D- OUT, 5 D+ OUT

## IC_USBUF01W6
designator U?, comment value 33 OHMS, 47PF  (hidden comment: USBUF01W6)
FILTER RC(PI) 33 OHM/47PF SMD; MFG: STMicroelectronics; Supplier 1: Digi-Key; Supplier Part Number 1: 497-3087-1-ND; MFG_PN: USBUF01W6
footprint SOT-363_6-TSSOP_SC-88 (COMMON NAMES: SOT-363, 6-TSSOP, SC-88)
pins: 1 D1, 2 GND, 3 D2, 4 D3, 5 3.3V, 6 D4

## INDUCTOR_IHLP2020BZER1R0M01
designator L?, comment value 1uH  Current: 16A  (hidden comment: IHLP2020BZER1R0M01)
FIXED IND 1UH 3.8A 33 MOHM SMD; MFG: Bourns Inc.; TOLERANCE: 20%; Supplier 1: Digi-Key; Supplier Part Number 1: 541-1087-1-ND; MFG_PN: IHLP2020BZER1R0M01
footprint INDPM5552X200N
pins: 1, 2

## INDUCTOR_LPS4018-472MRC
designator L?, comment value 4.7uH  Current: 1.9A  (hidden comment: LPS4018-472MRC)
SHIELDED POWER INDUCTORS, 4.7UH; MFG: COILCRAFT; TOLERANCE: 20%; Supplier 1: Digi-Key; Supplier Part Number 1: 2457-LPS4018-472MRC-ND; MFG_PN: LPS4018-472MRC
footprint LPS4018 (COIL CRAFT LPS4018 INDUCTOR SERIES)
pins: 1, 2

## INDUCTOR_SDR0403-1R0ML
designator L?, comment value 1uH  Current: 5.5A  (hidden comment: SDR0403-1R0ML)
FIXED IND 1UH 3.8A 33 MOHM SMD; MFG: Bourns Inc.; TOLERANCE: 20%; Supplier 1: Digi-Key; Supplier Part Number 1: SDR0403-1R0MLCT-ND; MFG_PN: SDR0403-1R0ML
footprint IND_SDR0403 (INDUCTOR BOURNS SDR0403 SERIES)
pins: 1, 2

## LED_RED_GREEN_HSMF-A201-A00J1
designator LED?, comment value 2.2V  (hidden comment: HSMF-A201-A00J1)
LED GREEN/RED CLEAR 4PLCC SMD; MFG: Broadcom Limited; Case/Package: 4PLCC; Supplier 1: Digi-Key; Supplier Part Number 1: 516-2491-1-ND; MFG_PN: HSMF-A201-A00J1
footprint 4PLCC-LED (HSMF-A201)
pins: 1 K, 2 A, 3 K, 4 A

## MODULE_2491
designator U?, comment PACKAGE: ESP12-F  FLASH: 4MB  (hidden comment: 2491)
RX TXRX MOD WIFI TRACE ANT SMD 4MB; MFG: Adafruit Industries LLC; Supplier 1: Digi-Key; Supplier Part Number 1: 1528-1438-ND; Case/Package: ESP-12F; MFG_PN: 2491
footprint XCVR_ESP8266-12E/ESP-12E
pins: 1 ~{RST}, 2 ADC, 3 EN, 4 GPIO16, 5 GPIO14, 6 GPIO12, 7 GPIO13, 8 VCC, 9 CSO, 10 MISO, 11 GPIO9, 12 GPIO10, 13 MOSI, 14 SCLK, 15 GND, 16 GPIO15, 17 GPIO2, 18 GPIO0, 19 GPIO4, 20 GPIO5, 21 RXI, 22 TXO

## MODULE_NHD-4.3-480272EF-ASXV#-CTP
designator DISP?, comment NHD-4.3-480272EF-ASXV#-CTP  value 480x272 24 Bit
LCD TFT 480X272 HIGH BRIGHT; MFG: Newhaven Display Intl; MFG_PN: NHD-4.3-480272EF-ASXV#-CTP; Supplier Part Number 1: NHD-4.3-480272EF-ASXV#-CTP-ND; Supplier 1: DigiKey
footprint NHD_NHD-4.3-480272EF-ASXV#-CTP (TFT LCD 480 X 272 RGB888)

## MODULE_RCWL-1601
designator U?, comment value 3V  (hidden comment: 4007)
MODULE ULTRASONIC SENSOR 3V; MFG: Adafruit Industries LLC; Case/Package: 4007; Supplier 1: Digi-Key; Supplier Part Number 1: 1528-2832-ND; MFG_PN: 4007
footprint 4007 (RCWL-1601 ULTRA SONIC SENSOR)
pins: 1 VDD, 2 TRIG RX, 3 ECHO TX, 4 GND

## MODULE_WRL-1746
designator U?, comment value 4MB  (hidden comment: WRL-17146)
WIFI MODULE - ESP8266 4MB FLASH; MFG: Sparkfun; Supplier 1: Digi-Key; Supplier Part Number 1: 1568-WRL-17146-ND; Case/Package: WRL-1746; MFG_PN: WRL-17146
footprint WRL-17146 (ESP8266 WIFI MODULE)
pins: 1 GND, 2 TXO, 3 GPIO2, 4 EN, 5 GPIO0, 6 ~{RST}, 7 RXI, 8 VDD

## MOSFET_NCH_2N7002-7-F
designator Q?, comment value 60V  (hidden comment: 2N7002-7-F)
MOSFET N-CH 60V 115MA SOT23-3; MFG: Diodes Incorporated; Case/Package: SOT-23; Supplier 1: Digi-Key; Supplier Part Number 1: 2N7002-FDICT-ND; MFG_PN: 2N7002-7-F
footprint SOT-23 (SOT23-3)
pins: 1 B, 2 E, 3 C

## MOSFET_PCH_IRLML5103PBF
designator Q?, comment value 30V  (hidden comment: IRLML5103PBF)
MOSFET P CHN, VDS=30V, RDSON = .6OHM, SOT 23; MFG: INTERNATIONAL RECTIFIER; ComponentLink1Description: Manufacturer Link; ComponentLink1URL: http://www.fairchildsemi.com/; ComponentLink2Description: Datasheet; ComponentLink2URL: http://www.fairchildsemi.com/ds/2N%2F2N3904.pdf; Supplier 1: Digi-Key; Supplier Part Number 1: IRLML5103PBFCT-ND; MFG_PN: IRLML5103PBF
footprint SOT-23 (SOT23-3)
pins: 1 B, 2 E, 3 C

## MOSFET_PCH_NTR3A30PZT1G
designator Q?, comment value 20V  (hidden comment: NTR3A30PZT1G)
MOSFET P-CH 20V 3A SOT23-3; MFG: ON Semiconductor; ComponentLink1Description: Manufacturer Link; ComponentLink1URL: http://www.fairchildsemi.com/; ComponentLink2Description: Datasheet; ComponentLink2URL: http://www.fairchildsemi.com/ds/2N%2F2N3904.pdf; Supplier 1: Digi-Key; Supplier Part Number 1: NTR3A30PZT1GOSCT-ND; MFG_PN: NTR3A30PZT1G
footprint SOT-23 (SOT23-3)
pins: 1 B, 2 E, 3 C

## MOUNT_HOLE_3MM_ID
designator MTH?  (no BOM)
3MM IN D. MT HOLE
footprint MT_HOLE_3MM_5MM (3MM ID / 5MM OD)
pins: 1

## RES_0.140_1206_1/4W_1%
designator R?, comment value 0.140  TOLERANCE: 1%  POWER: .25  (hidden comment: RL1206FR-070R14L)
RES 0.14 OHM 1% 1/4W 1206; MFG: Yageo; Case/Package: 1206; MFG_PN: RL1206FR-070R14L; Supplier 1: Digi-Key; Supplier Part Number 1: 311-.14LWCT-ND
footprint 1206 (1206 PACKAGE)
pins: 1, 2

## RES_0_0805_1/8W
designator R?, comment value 0  TOLERANCE: JUMPER  POWER: .125W  (hidden comment: RC0805JR-070RL)
RES SMD 0 OHM JUMPER 1/8W 0805; MFG: Yageo; Case/Package: 0805; MFG_PN: RC0805JR-070RL; Supplier 1: Digi-Key; Supplier Part Number 1: 311-0.0ARCT-ND
footprint PMG_RES_0805
pins: 1, 2

## RES_1K_0805_1/8W_1%
designator R?, comment value 1K  TOLERANCE: 1%  POWER: .125W  (hidden comment: RC0805FR-071KL)
RES SMD 1K OHM 1% 1/8W 0805; MFG: Yageo; Case/Package: 0805; MFG_PN: RC0805FR-071KL; Supplier 1: Digi-Key; Supplier Part Number 1: 311-1.00KCRCT-ND
footprint RES_0805
pins: 1, 2

## RES_1M_0603_1/10W_1%
designator R?, comment value 1M  TOLERANCE: 1%  POWER: .10W  (hidden comment: RC0603FR-071ML)
RES SMD 1M OHM 1% 1/10W 0603; MFG: Yageo; Case/Package: 0603; MFG_PN: RC0603FR-071ML; Supplier 1: Digi-Key; Supplier Part Number 1: 311-1.00MHRCT-ND
footprint RES_0603 (RES 0603 .125W)
pins: 1, 2

## RES_2K_0805_1/8W_1%
designator R?, comment value 2K  TOLERANCE: 1%  POWER: .125W  (hidden comment: RC0805FR-072KL)
RES SMD 2K OHM 1% 1/8W 0805; MFG: Yageo; Case/Package: 0805; MFG_PN: RC0805FR-072KL; Supplier 1: Digi-Key; Supplier Part Number 1: 311-2.00KCRCT-ND
footprint RES_0805
pins: 1, 2

## RES_5.1_0805_1/8W_1%
designator R?, comment value 5.1  TOLERANCE: 1%  POWER: .125W  (hidden comment: RC0805FR-075R1L)
RES 5.1 OHM 1% 1/8W 0805; MFG: Yageo; Case/Package: 0805; MFG_PN: RC0805FR-075R1L; Supplier 1: Digi-Key; Supplier Part Number 1: YAG3373CT-ND
footprint PMG_RES_0805
pins: 1, 2

## RES_10K_0603_1/10W_1%
designator R?, comment value 10K  TOLERANCE: 1%  POWER: .10W  (hidden comment: RC0603FR-0710KL)
RES SMD 10K OHM 1% 1/10W 0603; MFG: Yageo; Case/Package: 0603; MFG_PN: RC0603FR-0710KL; Supplier 1: Digi-Key; Supplier Part Number 1: 311-10.0KHRCT-ND
footprint RES_0603 (RES 0603 .125W)
pins: 1, 2

## RES_10K_0805_1/4W_1%
designator R?, comment value 10K  TOLERANCE: 1%  POWER: .25W  (hidden comment: SG73S2ATTD1002F)
RES SMD 10K OHM 1% 1/4W 0805; MFG: KOA Speer Electronics, Inc.; Case/Package: 0805; MFG_PN: SG73S2ATTD1002F; Supplier 1: Digi-Key; Supplier Part Number 1: 2019-SG73S2ATTD1002FCT-ND
footprint RES_0805
pins: 1, 2

## RES_15K_0805_1/8W_1%
designator R?, comment value 15K  TOLERANCE: 1%  POWER: .125W  (hidden comment: RC0805FR-0715KL)
RES SMD 15K OHM 1% 1/8W 0805; MFG: Yageo; Case/Package: 0805; MFG_PN: RC0805FR-0715KL; Supplier 1: Digi-Key; Supplier Part Number 1: 311-15.0KCRCT-ND
footprint RES_0805
pins: 1, 2

## RES_20K_0805_1/8W_1%
designator R?, comment value 20K  TOLERANCE: 1%  POWER: .125W  (hidden comment: RC0805FR-0720KL)
RES SMD 20K OHM 1% 1/8W 0805; MFG: Yageo; Case/Package: 0805; MFG_PN: RC0805FR-0720KL; Supplier 1: Digi-Key; Supplier Part Number 1: 311-20.0KCRCT-ND
footprint RES_0805
pins: 1, 2

## RES_30K_0805_1/8W_1%
designator R?, comment value 30K  TOLERANCE: 1%  POWER: .125W  (hidden comment: ERJ-6ENF3002V)
RES SMD 30K OHM 1% 1/8W 0805; MFG: Panasonic Electronic Components; Case/Package: 0805; MFG_PN: ERJ-6ENF3002V; Supplier 1: Digi-Key; Supplier Part Number 1: P30.0KCCT-ND
footprint RES_0805
pins: 1, 2

## RES_40.2K_0805_1/8W_1%_1
designator R?, comment value 40.2K  TOLERANCE: 1%  POWER: .125W  (hidden comment: RC0805FR-0740K2L)
RES SMD 40.2K OHM 1% 1/8W 0805; MFG: Yageo; Case/Package: 0805; MFG_PN: RC0805FR-0740K2L; Supplier 1: Digi-Key; Supplier Part Number 1: 311-40.2KCRCT-ND
footprint RES_0805
pins: 1, 2

## RES_100K_0603_1/10W_1%
designator R?, comment value 100K  TOLERANCE: 1%  POWER: .10W  (hidden comment: RC0603FR-07100KL)
RES SMD 100K OHM 1% 1/10W 0603; MFG: Yageo; Case/Package: 0603; MFG_PN: RC0603FR-07100KL; Supplier 1: Digi-Key; Supplier Part Number 1: 311-100KHRCT-ND
footprint RES_0603 (RES 0603 .125W)
pins: 1, 2

## RES_100K_0805_1/4W_1%
designator R?, comment value 100K  TOLERANCE: 1%  POWER: .25W  (hidden comment: RK73H2ATTD1003F)
RES SMD 100K OHM 1% 1/4W 0805; MFG: KOA Speer Electronics, Inc.; Case/Package: 0805; MFG_PN: RK73H2ATTD1003F; Supplier 1: Digi-Key; Supplier Part Number 1: 2019-RK73H2ATTD1003FCT-ND
footprint PMG_RES_0805
pins: 1, 2

## RES_120_0805_1/4W_1%
designator R?, comment value 120  TOLERANCE: 1%  POWER: 0.25W  (hidden comment: RK73H2ATTD1200F)
RES 120 OHM 1% 1/4W 0805; MFG: KOA Speer Electronics, Inc.; Case/Package: 0805; MFG_PN: RK73H2ATTD1200F; Supplier 1: Digi-Key; Supplier Part Number 1: 2019-RK73H2ATTD1200FCT-ND
footprint PMG_RES_0805
pins: 1, 2

## RES_137K_0805_1/8W_1%
designator R?, comment value 137K  TOLERANCE: 1%  POWER: .125W  (hidden comment: RC0805FR-07137KL)
RES SMD 137K OHM 1% 1/8W 0805; MFG: Yageo; Case/Package: 0805; MFG_PN: RC0805FR-07137KL; Supplier 1: Digi-Key; Supplier Part Number 1: 311-137KCRCT-ND
footprint PMG_RES_0805
pins: 1, 2

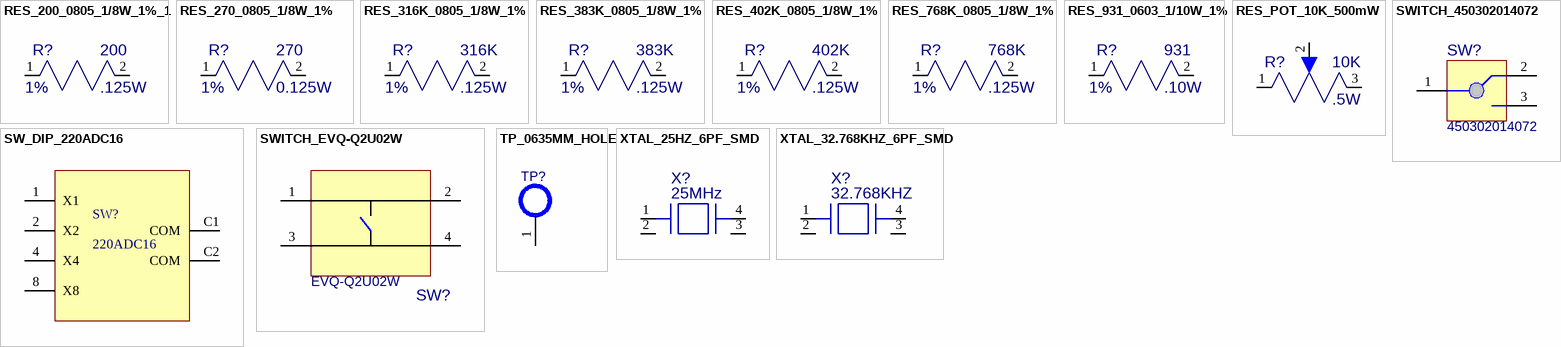
[diagram p4: symbols RES_200_0805_1/8W_1%_1 to XTAL_32.768KHZ_6PF_SMD]

## RES_200_0805_1/8W_1%_1
designator R?, comment value 200  TOLERANCE: 1%  POWER: .125W  (hidden comment: RC0805FR-07200RL)
RES SMD 200 OHM 1% 1/8W 0805; MFG: Yageo; Case/Package: 0805; MFG_PN: RC0805FR-07200RL; Supplier 1: Digi-Key; Supplier Part Number 1: 311-200CRCT-ND
footprint RES_0805
pins: 1, 2

## RES_270_0805_1/8W_1%
designator R?, comment value 270  TOLERANCE: 1%  POWER: 0.125W  (hidden comment: ERJ-6ENF2700V)
RES 270 OHM 1% 1/8W 0805; MFG: Panasonic Electronic Components; Case/Package: 0805; MFG_PN: ERJ-6ENF2700V; Supplier 1: Digi-Key; Supplier Part Number 1: P270CCT-ND
footprint PMG_RES_0805
pins: 1, 2

## RES_316K_0805_1/8W_1%
designator R?, comment value 316K  TOLERANCE: 1%  POWER: .125W  (hidden comment: ERJ-6ENF3163V)
RES SMD 316K OHM 1% 1/8W 0805; MFG: Panasonic Electronic Components; Case/Package: 0805; MFG_PN: ERJ-6ENF3163V; Supplier 1: Digi-Key; Supplier Part Number 1: P316KCCT-ND
footprint PMG_RES_0805
pins: 1, 2

## RES_383K_0805_1/8W_1%
designator R?, comment value 383K  TOLERANCE: 1%  POWER: .125W  (hidden comment: RC0805FR-07383KL)
RES SMD 383K OHM 1% 1/8W 0805; MFG: Yageo; Case/Package: 0805; MFG_PN: RC0805FR-07383KL; Supplier 1: Digi-Key; Supplier Part Number 1: 311-383KCRCT-ND
footprint RES_0805
pins: 1, 2

## RES_402K_0805_1/8W_1%
designator R?, comment value 402K  TOLERANCE: 1%  POWER: .125W  (hidden comment: RC0805FR-07402KL)
RES SMD 402K OHM 1% 1/8W 0805; MFG: Yageo; Case/Package: 0805; MFG_PN: RC0805FR-07402KL; Supplier 1: Digi-Key; Supplier Part Number 1: 311-402KCRCT-ND
footprint RES_0805
pins: 1, 2

## RES_768K_0805_1/8W_1%
designator R?, comment value 768K  TOLERANCE: 1%  POWER: .125W  (hidden comment: RC0805FR-07768KL)
RES SMD 768K OHM 1% 1/8W 0805; MFG: Yageo; Case/Package: 0805; MFG_PN: RC0805FR-07768KL; Supplier 1: Digi-Key; Supplier Part Number 1: 311-768KCRCT-ND
footprint PMG_RES_0805
pins: 1, 2

## RES_931_0603_1/10W_1%
designator R?, comment value 931  TOLERANCE: 1%  POWER: .10W  (hidden comment: RC0603FR-07931RL)
RES SMD 931 OHM 1% 1/10W 0603; MFG: Yageo; Case/Package: 0603; MFG_PN: RC0603FR-07931RL; Supplier 1: Digi-Key; Supplier Part Number 1: 311-931HRCT-ND
footprint RES_0603 (RES 0603 .125W)
pins: 1, 2

## RES_POT_10K_500mW
designator R?, comment value 10K  POWER: .5W  (hidden comment: 3386F-1-103TLF)
TRIMMER 10K OHM 0.5W PC PIN TOP; MFG: Bourns Inc.; Case/Package: PIN TOP; MFG_PN: 3386F-1-103TLF; Supplier 1: Digi-Key; Supplier Part Number 1: 3386F-103TLF-ND
footprint BOURNS_3386F (RESISTOR POT 3386F SERIES)
pins: 1, 2, 3

## SW_DIP_220ADC16
designator SW?, comment 220ADC16
SWITCH ROTARY DIP HEX 100MA 50V; MFG: CTS Electrocomponents; MFG_PN: 220ADC16; Supplier 1: DigiKey; Supplier Part Number 1: CT3070-ND; Value: HEX; Case/Package: 220ADC16
footprint CTS_220ADC16 (HEX ROTARY SWITCH)
pins: 1 X1, 2 X2, 4 X4, 8 X8, C1 COM, C2 COM

## SWITCH_450302014072
designator SW?, comment 450302014072
SWITCH MINI SLIDE RA 2.54mm; MFG: Wurth Elektronik; Current: 500mA; Voltage: 12V; Case/Package: 450302014072; Supplier 1: Mouser; Supplier Part Number 1: 710-450302014072; MFG_PN: 450302014072
footprint SWITCH_WURTH_450302014072 (SLIDE SWITCH)
pins: 1, 2, 3

## SWITCH_EVQ-Q2U02W
designator SW?, comment EVQ-Q2U02W
SWITCH TACTILE SPST-NO 0.02A 15V; MFG: Panasonic Electronic Components; Case/Package: EVQ-Q2; Supplier 1: Digi-Key; Supplier Part Number 1: P12954SCT-ND; VALUE: 15V; MFG_PN: EVQ-Q2U02W
footprint SW_EVQ-Q2U02W (SWITCH)
pins: 1 B, 2 B', 3 A, 4 A'

## TP_0635MM_HOLE
designator TP?  (value not drawn)  (no BOM)
3MM IN D. MT HOLE
footprint TP_0635MM_HOLE (TEST POINT 0.635mm)
pins: 1

## XTAL_25HZ_6PF_SMD
designator X?, comment value 25MHz  (hidden comment: ECS-250-18-7SX-TR)
CRYSTAL 25.0000MHZ 18PF SMD; MFG: ECS Inc.; TOLERANCE: 30PPM; MFG_PN: ECS-250-18-7SX-TR; Supplier 1: Digi-Key; Supplier Part Number 1: XC2030-1-ND; Case/Package: XTAL_ECS
footprint XTAL_ECS (CRYSTAL ECS SERIES)
pins: 1, 2, 3, 4

## XTAL_32.768KHZ_6PF_SMD
designator X?, comment value 32.768KHZ  (hidden comment: MC-306 32.7680K-E0:PURE SN)
CRYSTAL 32.7680KHZ 6PF SMD; MFG: EPSON; TOLERANCE: 100ppm; MFG_PN: MC-306 32.7680K-E0:PURE SN; Supplier 1: Digi-Key; Supplier Part Number 1: SER4097CT-ND; Case/Package: XTAL_ECS
footprint XTAL_ECS-.327-6-17X-TR
pins: 1, 2, 3, 4